# Altium footprint library RadYaab_v11.PcbLib: 44 footprints (part 2 of 3)
Each footprint in its own frame and in the unit in brackets; x right, y up, seen from the top. Pads: shape width x height; smd on the part's side, far side on the other; paste and mask are expansions set on the pad; w line width, h text height; cw(c..) or ccw(c..) is an arc to the next point about the centre after c.
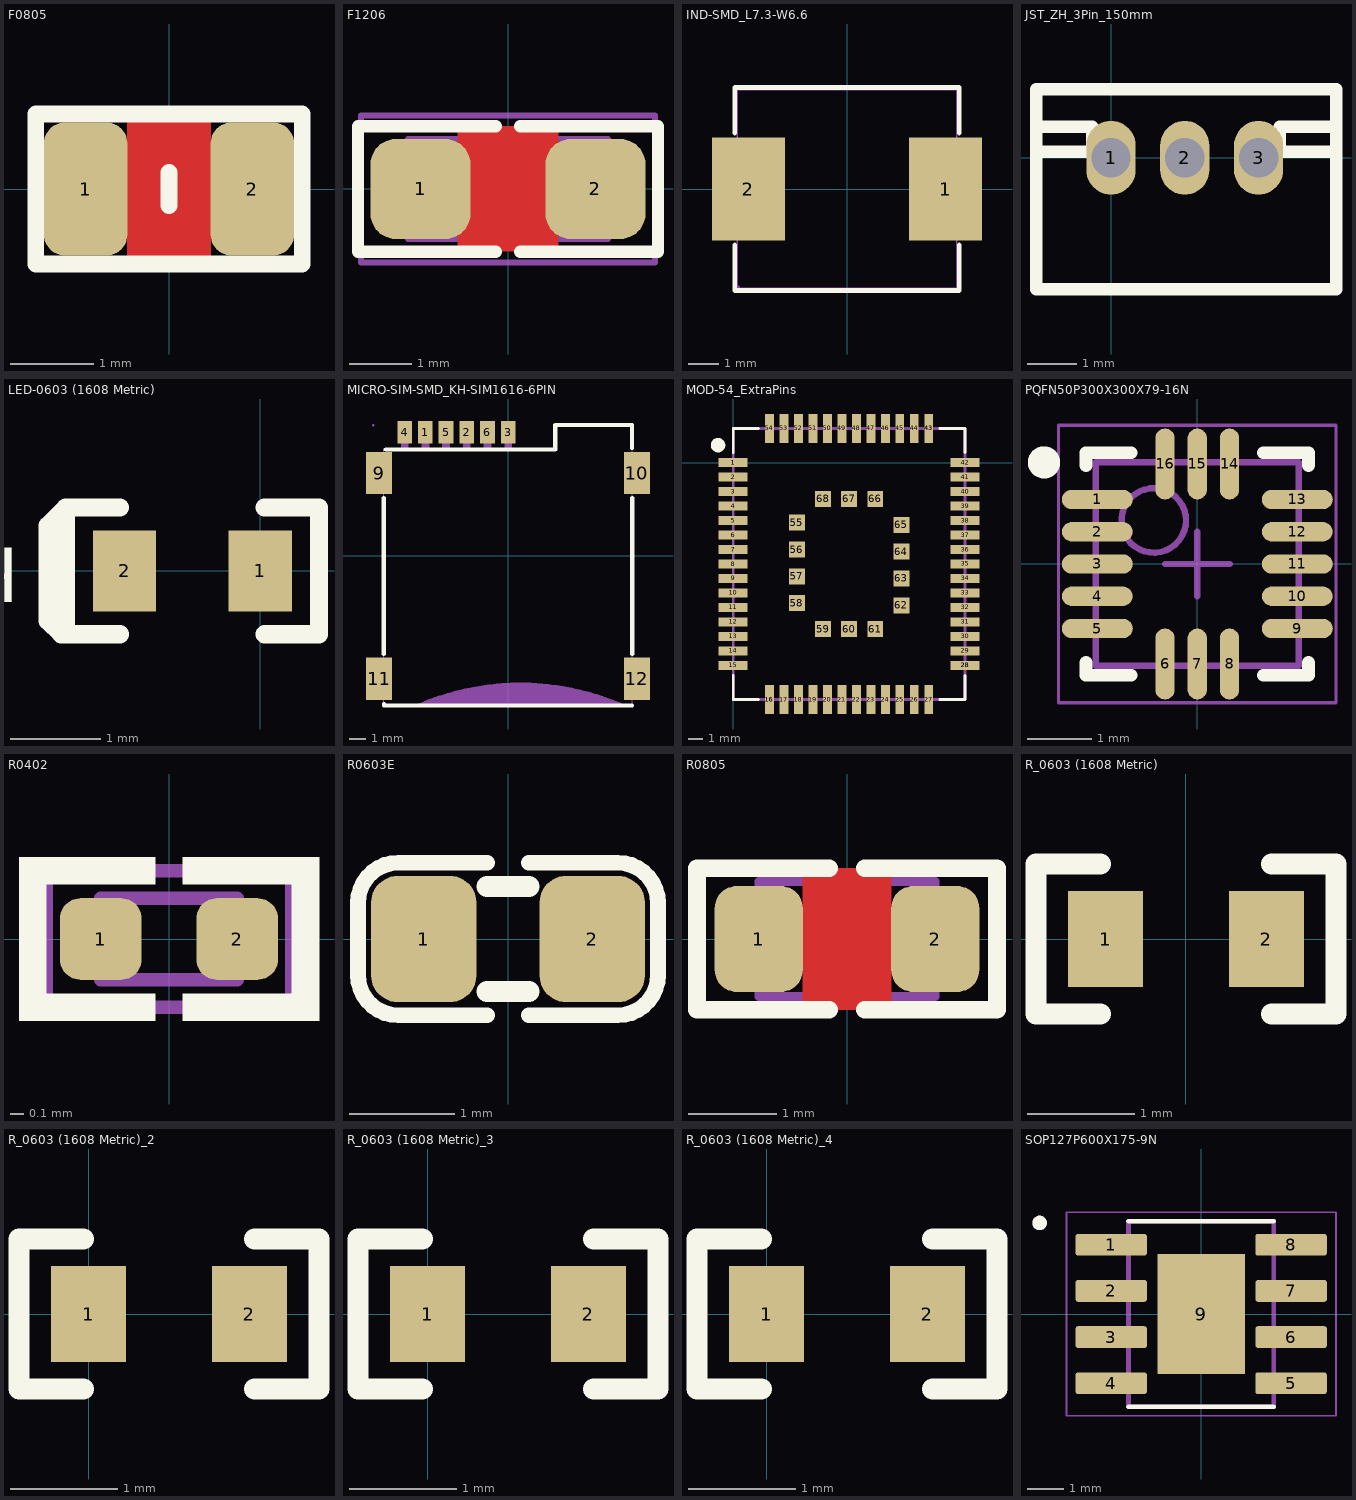
[diagram p1: the footprints below, top view; thin cyan lines are the x and y axes]

## F0805 [mm] "FUSE FAST 500mA, 0805, 2012, 2.0X1.3mm"
height 1.35
pads (2):
  rrect50% 1x1.6 smd paste-0.1 mask+0.075: 1(-1,0) 2(1,0)
Top Layer:
  pour cut-out: -0.5,0.8 0.5,0.8 0.5,-0.8 -0.5,-0.8
Top Overlay:
  lines w0.2: 0,-0.2 0,0.2 ; -1.6,-0.9 1.6,-0.9 1.6,0.9 -1.6,0.9 -1.6,-0.9
3D body "User Library-fuse0805L050WR.step": height 1.24, standoff 0, extent -1.105,-0.749 1.105,0.749

## F1206 [mm] "FUSE, 1206, 3.2x1.6mm"
height 2.5
pads (2):
  rrect50% 1.6x1.6 smd paste-2 mask+0.075: 1(-1.4,0) 2(1.4,0)
Top Layer:
  pour cut-out: -0.8,1 -0.8,-1 0.8,-1 0.8,1
Top Overlay:
  lines w0.2: -2.4,-1 -0.2,-1 ; -2.4,-1 -2.4,1 -0.2,1 ; 0.2,-1 2.4,-1 ; 0.2,1 2.4,1 2.4,-1
Top Paste:
  region: -1.15,0.7 -1.1,0.7 -1.008,0.662 -0.938,0.592 -0.9,0.5 -0.9,0.45 -0.9,-0.45 -0.9,-0.5 -0.938,-0.592 -1.008,-0.662 -1.1,-0.7 -1.15,-0.7 -1.625,-0.7 -1.68,-0.7 -1.781,-0.658 -1.858,-0.581 -1.9,-0.48 -1.9,-0.425 -1.9,0.45 -1.9,0.5 -1.862,0.592 -1.792,0.662 -1.7,0.7 -1.65,0.7
  region: 1.15,0.7 1.1,0.7 1.008,0.662 0.938,0.592 0.9,0.5 0.9,0.45 0.9,-0.45 0.9,-0.5 0.938,-0.592 1.008,-0.662 1.1,-0.7 1.15,-0.7 1.625,-0.7 1.68,-0.7 1.781,-0.658 1.858,-0.581 1.9,-0.48 1.9,-0.425 1.9,0.45 1.9,0.5 1.862,0.592 1.792,0.662 1.7,0.7 1.65,0.7
Mechanical 13:
  lines w0.1: -1.6,-0.8 -1.6,0.8 1.6,0.8 1.6,-0.8 -1.6,-0.8
Mechanical 15:
  lines w0.1: -0.5,0 0.5,0 ; 0,-0.5 0,0.5 ; -2.35,-1.175 -2.35,1.175 2.35,1.175 2.35,-1.175 -2.35,-1.175
3D body "User Library-FUSER_nanoSMD.step": height 1, standoff 0, extent -1.603,-0.8 1.602,0.8

## IND-SMD_L7.3-W6.6 [mm] "Chip Inductor, EIA 1008, Metric 2520, Body 2.60mm L X 2.00mm W X 1.00mm H, IPC Medium Density"
height 1
pads (2):
  rect 2.424x3.42 smd: 1(3.278,0) 2(-3.278,0)
Top Overlay:
  lines w0.152: -3.726,-1.862 -3.726,-3.376 3.726,-3.376 3.726,-1.862 ; -3.726,1.862 -3.726,3.376 3.726,3.376 3.726,1.862
Mechanical 15:
  region: 3.65,-1.5 3.65,1.5 2.15,1.5 2.15,-1.5
  region: -3.65,-1.5 -3.65,1.5 -2.15,1.5 -2.15,-1.5
  region: -3.56,-3.27 -3.56,-3.245 -3.595,-3.21 -3.645,-3.21 -3.68,-3.245 -3.68,-3.27 -3.68,-3.295 -3.645,-3.33 -3.595,-3.33 -3.56,-3.295 -3.56,-3.27
  lines w0.051: -3.65,-3.3 3.65,-3.3 3.65,3.3 -3.65,3.3 -3.65,-3.3

## JST_ZH_3Pin_150mm [mm] "JST ZH 3 Pin"
pads (3):
  oval 1x1.5 hole 0.8: 1(0,0) 2(1.5,0) 3(3,0)
Top Overlay:
  lines w0.254: -1.524,0.127 -0.381,0.127 -0.381,0.635 -1.524,0.635 ; 4.572,0.127 3.429,0.127 3.429,0.635 4.572,0.635 ; -1.524,-2.667 4.572,-2.667 4.572,1.397 -1.524,1.397 -1.524,-2.667

## LED-0603 (1608 Metric) [mm] "SMD LED 0603, P=2.2mm"
pads (2):
  rect 0.7x0.9 smd: 1(0,0) 2(-1.5,0)
Top Overlay:
  lines w0.2: -2.2,-0.7 -2.35,-0.55 -2.35,0.5 -2.15,0.7 ; -1.55,-0.7 -2.15,-0.7 -2.15,0.7 ; -1.55,0.7 -2.15,0.7 ; 0.05,-0.7 0.65,-0.7 0.65,0.7 0.05,0.7
  text "K" at -2.667,0.254 h0.6
3D body "User Library-LED_0603_R.STEP": height 0.6, standoff 0, extent -1.55,-0.4 0.05,0.4

## MICRO-SIM-SMD_KH-SIM1616-6PIN [mm]
height 1.2
pads (10):
  rect 0.9x1.35 smd: 1(-5.07,7.565) 2(-2.53,7.565) 3(0.01,7.565) 4(-6.34,7.565) 5(-3.8,7.565) 6(-1.26,7.565)
  rect 1.6x2.6 smd: 9(-7.9,5.065) 10(7.9,5.065) 11(-7.9,-7.565) 12(7.9,-7.565)
Top Overlay:
  lines w0.254: -7.62,-6.034 -7.62,3.534 ; -7.6,-9.096 -7.6,-9.2 7.6,-9.2 ; -7.5,6.5 2.9,6.5 2.9,8 7.6,8 7.6,7.493 ; 7.6,6.6 7.6,7.497 ; 7.62,-6.034 7.62,3.534
Mechanical 6:
  region: 0.7,-7.8 0.521,-7.802 0.342,-7.805 0.162,-7.811 -0.017,-7.819 -0.196,-7.829 -0.375,-7.841 -0.553,-7.854 -0.732,-7.87 -0.91,-7.888 -1.088,-7.908 -1.266,-7.93 -1.444,-7.954 -1.621,-7.98 -1.798,-8.008 -1.975,-8.038 -2.152,-8.07 -2.328,-8.104 -2.503,-8.14 -2.678,-8.178 -2.853,-8.218 -3.027,-8.26 -3.201,-8.304 -3.374,-8.35 -3.547,-8.397 -3.719,-8.447 -3.891,-8.499 -4.062,-8.553 -4.233,-8.608 -4.402,-8.666 -4.571,-8.725 -4.74,-8.787 -4.908,-8.85 -5.075,-8.915 -5.241,-8.982 -5.406,-9.051 -5.571,-9.122 -5.735,-9.194 -5.791,-9.22 7.309,-9.22 7.145,-9.147 6.981,-9.075 6.815,-9.006 6.649,-8.938 6.483,-8.872 6.315,-8.808 6.147,-8.746 5.978,-8.686 5.809,-8.628 5.638,-8.572 5.468,-8.517 5.296,-8.465 5.124,-8.414 4.952,-8.366 4.778,-8.319 4.605,-8.275 4.431,-8.232 4.256,-8.191 4.081,-8.153 3.906,-8.116 3.73,-8.082 3.553,-8.049 3.377,-8.018 3.2,-7.989 3.023,-7.963 2.845,-7.938 2.667,-7.916 2.489,-7.895 2.311,-7.876 2.132,-7.86 1.954,-7.845 1.775,-7.833 1.596,-7.822 1.417,-7.814 1.238,-7.807 1.058,-7.803 0.879,-7.8
Mechanical 15:
  region: -8.26,4.07 -8.26,6.07 -7.26,6.07 -7.26,4.07
  region: -8.26,-8.565 -8.26,-6.565 -7.26,-6.565 -7.26,-8.565
  region: 7.25,-8.56 7.25,-6.56 8.25,-6.56 8.25,-8.56
  region: 7.25,4.07 7.25,6.07 8.25,6.07 8.25,4.07
  region: -6.11,6.42 -6.56,6.42 -6.56,6.92 -6.11,6.92
  region: -4.84,6.42 -5.29,6.42 -5.29,6.92 -4.84,6.92
  region: -3.57,6.42 -4.02,6.42 -4.02,6.92 -3.57,6.92
  region: -2.3,6.42 -2.75,6.42 -2.75,6.92 -2.3,6.92
  region: -1.03,6.42 -1.48,6.42 -1.48,6.92 -1.03,6.92
  region: 0.24,6.42 -0.21,6.42 -0.21,6.92 0.24,6.92
  region: -1.49,6.89 -1.49,7.89 -1.03,7.89 -1.03,6.89
  region: -4.03,6.89 -4.03,7.89 -3.57,7.89 -3.57,6.89
  region: -6.57,6.89 -6.57,7.89 -6.11,7.89 -6.11,6.89
  region: -0.22,6.89 -0.22,7.89 0.24,7.89 0.24,6.89
  region: -2.76,6.89 -2.76,7.89 -2.3,7.89 -2.3,6.89
  region: -5.3,6.89 -5.3,7.89 -4.84,7.89 -4.84,6.89
  region: -8.2,8.001 -8.201,8.025 -8.236,8.059 -8.284,8.059 -8.319,8.025 -8.32,8.001 -8.319,7.977 -8.284,7.943 -8.236,7.943 -8.201,7.977 -8.2,8.001
  lines w0.051: -7.62,-9.144 7.62,-9.271 7.62,8.001 2.921,8.001 2.921,6.477 -7.62,6.477 -7.62,-9.144

## MOD-54_ExtraPins [mm] "SKC111"
pads (72):
  rect 2x0.6 smd: 1(0,0) 1(0,0) 2(0,-1) 3(0,-2) 4(0,-3) 5(0,-4) 6(0,-5) 7(0,-6) 8(0,-7) 9(0,-8) 10(0,-9) 11(0,-10) 12(0,-11) 13(0,-12) 14(0,-13) 15(0,-14) 28(16,-14) 28(16,-14) 29(16,-13) 30(16,-12) 31(16,-11) 32(16,-10) 33(16,-9) 34(16,-8) 35(16,-7) 36(16,-6) 37(16,-5) 38(16,-4) 39(16,-3) 40(16,-2) 41(16,-1) 42(16,0)
  rect 0.6x2 smd: 16(2.5,-16.35) 16(2.5,-16.35) 17(3.5,-16.35) 18(4.5,-16.35) 19(5.5,-16.35) 20(6.5,-16.35) 21(7.5,-16.35) 22(8.5,-16.35) 23(9.5,-16.35) 24(10.5,-16.35) 25(11.5,-16.35) 26(12.5,-16.35) 27(13.5,-16.35) 43(13.5,2.35) 43(13.5,2.35) 44(12.5,2.35) 45(11.5,2.35) 46(10.5,2.35) 47(9.5,2.35) 48(8.5,2.35) 49(7.5,2.35) 50(6.5,2.35) 51(5.5,2.35) 52(4.5,2.35) 53(3.5,2.35) 54(2.5,2.35)
  rect 1.1x1.1 smd: 55(4.4,-4.15) 56(4.4,-6) 57(4.4,-7.85) 58(4.4,-9.7) 59(6.2,-11.5) 60(8,-11.5) 61(9.8,-11.5) 62(11.6,-9.85) 63(11.6,-8) 64(11.6,-6.15) 65(11.6,-4.3) 66(9.8,-2.5) 67(8,-2.5) 68(6.2,-2.5)
Top Overlay:
  circle w0.5: c-1.05,1.2 r0.25
  lines w0.2: 0,-14.7 0,-16.35 1.75,-16.35 ; 0,0.7 0,2.35 1.75,2.35 ; 14.25,-16.35 16,-16.35 16,-14.7 ; 14.25,2.35 16,2.35 16,0.7
Mechanical 1:
  lines w0.2: 0,-16.35 0,2.35 16,2.35 16,-16.35 0,-16.35
3D body "User Library-Quectel MC60.step": height 2.1, standoff 0, extent -0.001,-16.352 16.001,2.35

## PQFN50P300X300X79-16N [mm] "PQFN, 16-Leads, Body 3.00x3.00mm, Pitch 0.50mm, IPC Medium Density"
height 0.79
pads (16):
  oval 1.1x0.3 smd mask+0.038: 1(-1.55,1) 2(-1.55,0.5) 3(-1.55,0) 4(-1.55,-0.5) 5(-1.55,-1) 9(1.55,-1) 10(1.55,-0.5) 11(1.55,0) 12(1.55,0.5) 13(1.55,1)
  oval 0.3x1.1 smd mask+0.038: 6(-0.5,-1.55) 7(0,-1.55) 8(0.5,-1.55) 14(0.5,1.55) 15(0,1.55) 16(-0.5,1.55)
Top Overlay:
  circle w0.25: c-2.375,1.575 r0.125
  lines w0.2: -1.725,-1.525 -1.725,-1.725 -1.025,-1.725 ; -1.725,1.525 -1.725,1.725 -1.025,1.725 ; 1.025,-1.725 1.725,-1.725 1.725,-1.525 ; 1.025,1.725 1.725,1.725 1.725,1.525
Mechanical 13:
  circle w0.1: c-0.675,0.675 r0.5
  lines w0.1: -1.575,-1.575 -1.575,1.575 1.575,1.575 1.575,-1.575 -1.575,-1.575
Mechanical 15:
  lines w0.05: -2.15,-2.15 -2.15,2.15 2.15,2.15 2.15,-2.15 -2.15,-2.15
  lines w0.1: -0.5,0 0.5,0 ; 0,-0.5 0,0.5
3D body "PQFN50P300X300X79-16N.step": height 0.78, standoff 0, extent -1.575,-1.575 1.575,1.575

## R0402 [mm] "CHIP Resistor, 1.0X0.5mm, 0402"
height 0.4
pads (2):
  rrect50% 0.6x0.6 smd mask+0.075: 1(-0.5,0) 2(0.5,0)
Top Overlay:
  region: 0.1,-0.4 0.1,-0.6 1.1,-0.6 1.1,-0.4
  region: 0.1,0.4 0.1,0.6 1.1,0.6 1.1,0.4
  region: 1.1,0.6 0.9,0.6 0.9,-0.6 1.1,-0.6
  region: -1.1,0.6 -0.9,0.6 -0.9,-0.6 -1.1,-0.6
  region: -0.1,0.4 -0.1,0.6 -1.1,0.6 -1.1,0.4
  region: -0.1,-0.4 -0.1,-0.6 -1.1,-0.6 -1.1,-0.4
Mechanical 13:
  lines w0.1: -0.5,-0.3 -0.5,0.3 0.5,0.3 0.5,-0.3 -0.5,-0.3
Mechanical 15:
  lines w0.1: -0.9,-0.5 -0.9,0.5 0.9,0.5 0.9,-0.5 -0.9,-0.5
3D body "User Library-RES_1005-0402.step": height 0.41, standoff 0, extent -0.575,-0.275 0.575,0.275

## R0603E [mm] "CHIP Resistor 1/10 WATT, 1.6x0.8mm, 0603, EXPANDED PAD"
height 0.6
pads (2):
  rrect50% 1x1.2 smd mask+0.05: 1(-0.8,0) 2(0.8,0)
Top Overlay:
  lines w0.15: -0.2,-0.725 -1.042,-0.725 cw(c-1.042,-0.342) -1.425,-0.342 -1.425,0.342 cw(c-1.042,0.342) -1.042,0.725 -0.2,0.725 ; 0.2,-0.725 1.042,-0.725 ccw(c1.042,-0.342) 1.425,-0.342 1.425,0.342 ccw(c1.042,0.342) 1.042,0.725 0.2,0.725
  lines w0.2: -0.2,-0.5 0.2,-0.5 ; -0.2,0.5 0.2,0.5
3D body "User Library-RES_1609-0603.step": height 0.56, standoff 0, extent -0.85,-0.4 0.85,0.4

## R0805 [mm] "CHIP RESISTOR 1/8 WATT ,2.0X1.3mm, 0805, 2012"
height 1.1
pads (2):
  rrect50% 1x1.2 smd paste-0.1 mask+0.075: 1(-1,0) 2(1,0)
Top Layer:
  pour cut-out: -0.5,0.8 0.5,0.8 0.5,-0.8 -0.5,-0.8
Top Overlay:
  lines w0.2: -0.2,-0.8 -1.7,-0.8 -1.7,0.8 -0.2,0.8 ; 0.2,-0.8 1.7,-0.8 1.7,0.8 0.2,0.8
Mechanical 13:
  lines w0.1: -1,-0.65 1,-0.65 1,0.65 -1,0.65 -1,-0.65
3D body "User Library-RES_2013-0805.step": height 0.76, standoff 0, extent -1.15,-0.675 1.15,0.675

## R_0603 (1608 Metric) [mm]
height 1.35
pads (2):
  rect 0.7x0.9 smd: 1(-0.75,0) 2(0.75,0)
Top Overlay:
  lines w0.2: -0.8,-0.7 -1.4,-0.7 -1.4,0.7 -0.8,0.7 ; 0.8,-0.7 1.4,-0.7 1.4,0.7 0.8,0.7
3D body "User Library-RES_1609-0603.step": height 0.56, standoff 0, extent -0.85,-0.4 0.85,0.4

## R_0603 (1608 Metric)_2 [mm]
pads (2):
  rect 0.7x0.9 smd: 1(0,0) 2(1.5,0)
Top Overlay:
  lines w0.2: -0.05,-0.7 -0.65,-0.7 -0.65,0.7 -0.05,0.7 ; 1.55,-0.7 2.15,-0.7 2.15,0.7 1.55,0.7
3D body "User Library-RES_1609-0603.step": height 0.56, standoff 0, extent -0.1,-0.4 1.6,0.4

## R_0603 (1608 Metric)_3 [mm]
pads (2):
  rect 0.7x0.9 smd: 1(0,0) 2(1.5,0)
Top Overlay:
  lines w0.2: -0.05,-0.7 -0.65,-0.7 -0.65,0.7 -0.05,0.7 ; 1.55,-0.7 2.15,-0.7 2.15,0.7 1.55,0.7
3D body "User Library-RES_1609-0603.step": height 0.56, standoff 0, extent -0.1,-0.4 1.6,0.4

## R_0603 (1608 Metric)_4 [mm]
pads (2):
  rect 0.7x0.9 smd: 1(0,0) 2(1.5,0)
Top Overlay:
  lines w0.2: -0.05,-0.7 -0.65,-0.7 -0.65,0.7 -0.05,0.7 ; 1.55,-0.7 2.15,-0.7 2.15,0.7 1.55,0.7
3D body "User Library-RES_1609-0603.step": height 0.56, standoff 0, extent -0.1,-0.4 1.6,0.4

## SOP127P600X175-9N [mm]
height 1.75
pads (9):
  rrect25% 1.97x0.6 smd: 1(-2.475,1.905) 2(-2.475,0.635) 3(-2.475,-0.635) 4(-2.475,-1.905) 5(2.475,-1.905) 6(2.475,-0.635) 7(2.475,0.635) 8(2.475,1.905)
  rect 2.413x3.302 smd paste-3: 9(0,0)
Top Overlay:
  circle w0.2: c-4.445,2.505 r0.1
  lines w0.127: -2,-2.55 2,-2.55 ; -2,2.55 2,2.55
Top Paste:
  region: 0.645,-0.82 -0.645,-0.82 -0.645,0.82 0.645,0.82
Mechanical 13:
  circle w0.2: c-4.445,2.505 r0.1
  lines w0.127: -2,-2.55 2,-2.55 2,2.55 -2,2.55 -2,-2.55
Mechanical 15:
  lines w0.05: -3.71,-2.8 3.71,-2.8 3.71,2.8 -3.71,2.8 -3.71,-2.8
3D body "step_temp.STEP": height 1.75, standoff 0, extent -3,-2.45 3,2.45